# Altium footprint library NRF52811_Module.PcbLib: 1 footprints
Each footprint in its own frame and in the unit in brackets; x right, y up, seen from the top. Pads: shape width x height; smd on the part's side, far side on the other; paste and mask are expansions set on the pad; w line width, h text height; cw(c..) or ccw(c..) is an arc to the next point about the centre after c.
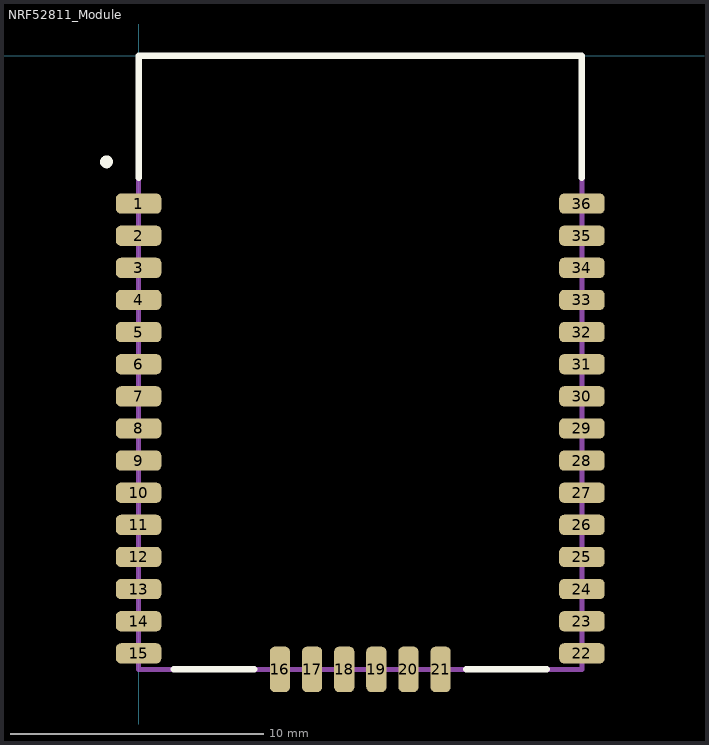
[diagram p0: the footprint, top view; thin cyan lines are the x and y axes]

## NRF52811_Module [mm]
pads (36):
  rrect50% 1.8x0.8 smd: 1(0,-5.842) 2(0,-7.112) 3(0,-8.382) 4(0,-9.652) 5(0,-10.922) 6(0,-12.192) 7(0,-13.462) 8(0,-14.732) 9(0,-16.002) 10(0,-17.272) 11(0,-18.542) 12(0,-19.812) 13(0,-21.082) 14(0,-22.352) 15(0,-23.622) 22(17.526,-23.622) 23(17.526,-22.352) 24(17.526,-21.082) 25(17.526,-19.812) 26(17.526,-18.542) 27(17.526,-17.272) 28(17.526,-16.002) 29(17.526,-14.732) 30(17.526,-13.462) 31(17.526,-12.192) 32(17.526,-10.922) 33(17.526,-9.652) 34(17.526,-8.382) 35(17.526,-7.112) 36(17.526,-5.842)
  rrect50% 0.8x1.8 smd: 16(5.588,-24.257) 17(6.858,-24.257) 18(8.128,-24.257) 19(9.398,-24.257) 20(10.668,-24.257) 21(11.938,-24.257)
Top Overlay:
  circle w0.254: c-1.27,-4.191 r0.127
  lines w0.254: 0,-4.826 0,0 17.526,0 17.526,-4.826 ; 1.397,-24.257 4.572,-24.257 ; 12.954,-24.257 16.129,-24.257
TopAssy:
  lines w0.2: 0,-24.257 0,0 17.526,0 17.526,-24.257 0,-24.257
3D body: height 1.8, standoff 0.05, extent 0,-24.257 17.526,0